# Altium footprint library microSIMsocket.PcbLib: 1 footprints
Each footprint in its own frame and in the unit in brackets; x right, y up, seen from the top. Pads: shape width x height; smd on the part's side, far side on the other; paste and mask are expansions set on the pad; w line width, h text height; cw(c..) or ccw(c..) is an arc to the next point about the centre after c.
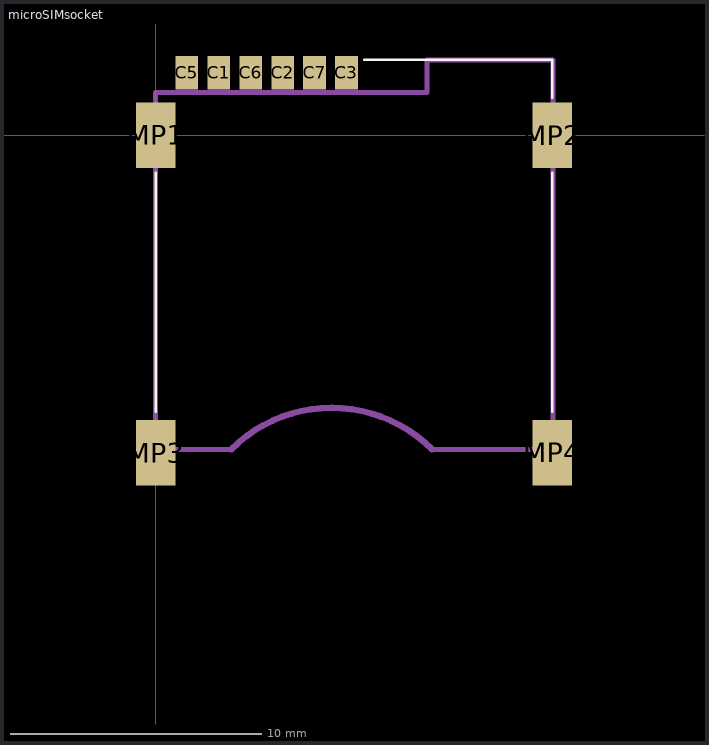
[diagram p0: the footprint, top view; thin cyan lines are the x and y axes]

## microSIMsocket [mm]
pads (10):
  rect 0.9x1.34 smd: C1(2.51,2.49) C2(5.05,2.49) C3(7.59,2.49) C5(1.24,2.49) C6(3.78,2.49) C7(6.32,2.49)
  rect 1.56x2.61 smd: MP1(0,0) MP2(15.78,0) MP3(0,-12.63) MP4(15.78,-12.63)
Top Overlay:
  lines w0.1: 0,-11 0,-1.5 ; 8.3,3 15.78,3 15.78,1.5 ; 15.78,-11 15.78,-1.5
Mechanical 13:
  lines w0.2: 3,-12.5 0,-12.5 0,-10.3 0,1.7 10.8,1.7 10.8,3 15.8,3 15.8,-12.5 11,-12.5
  lines w0.254: 3,-12.5 cw(c7,-16.5) 11,-12.5
3D body: height 1.35, standoff 0, extent -0.001,-12.501 15.801,3.001